# Altium integrated library FPGA Generic.IntLib: 1651 symbols (part 17 of 20)
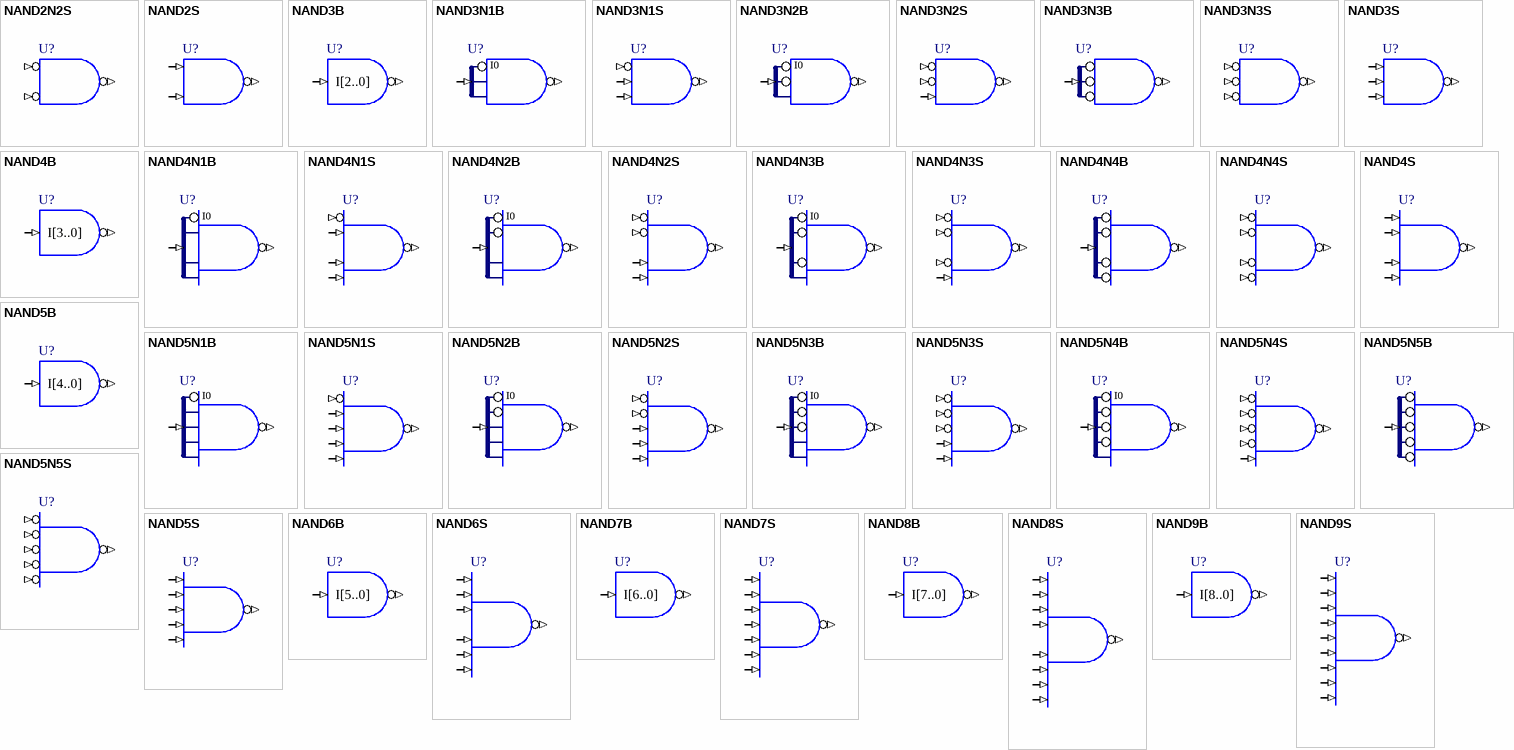
[diagram p59: symbols NAND2N2S to NAND9S]

## NAND5S
designator U?
5-Input NAND Gate, Single Pin Version; XilinxEquivalent: NAND5; FunctionalClass: Logic Primitive; PortSize: 5; ArchiveName: GENERIC; VHDLIB_SIM: GENERIC_LIB; Published: 29-Jan-2004; Publisher: Altium Limited; LastRevisionNo: 1.00.00; HelpURL: CR0118 FPGA Generic Library Guide.pdf#page=402; ComponentLink1URL: CR0136 FPGA Logic Primitive Resource Usage.pdf#page=120; ComponentLink1Description: Core &Resource Usage; SubClass: NAND; PortStyle: Single Pin Version
pins: I0 (in), I1 (in), I2 (in), I3 (in), I4 (in), O (out)

## NAND6B
designator U?
6-Input NAND Gate, Bus Version; FunctionalClass: Logic Primitive; PortSize: 6; ArchiveName: GENERIC; VHDLIB_SIM: GENERIC_LIB; Published: 29-Jan-2004; Publisher: Altium Limited; LastRevisionNo: 1.00.00; HelpURL: CR0118 FPGA Generic Library Guide.pdf#page=402; ComponentLink1URL: CR0136 FPGA Logic Primitive Resource Usage.pdf#page=121; ComponentLink1Description: Core &Resource Usage; SubClass: NAND; PortStyle: Bus Version
pins: I[5..0] (in), O (out)

## NAND6S
designator U?
6-Input NAND Gate, Single Pin Version; XilinxEquivalent: NAND6; FunctionalClass: Logic Primitive; PortSize: 6; ArchiveName: GENERIC; VHDLIB_SIM: GENERIC_LIB; Published: 29-Jan-2004; Publisher: Altium Limited; LastRevisionNo: 1.00.00; HelpURL: CR0118 FPGA Generic Library Guide.pdf#page=402; ComponentLink1URL: CR0136 FPGA Logic Primitive Resource Usage.pdf#page=122; ComponentLink1Description: Core &Resource Usage; SubClass: NAND; PortStyle: Single Pin Version
pins: I0 (in), I1 (in), I2 (in), I3 (in), I4 (in), I5 (in), O (out)

## NAND7B
designator U?
7-Input NAND Gate, Bus Version; FunctionalClass: Logic Primitive; PortSize: 7; ArchiveName: GENERIC; VHDLIB_SIM: GENERIC_LIB; Published: 29-Jan-2004; Publisher: Altium Limited; LastRevisionNo: 1.00.00; HelpURL: CR0118 FPGA Generic Library Guide.pdf#page=402; ComponentLink1URL: CR0136 FPGA Logic Primitive Resource Usage.pdf#page=123; ComponentLink1Description: Core &Resource Usage; SubClass: NAND; PortStyle: Bus Version
pins: I[6..0] (in), O (out)

## NAND7S
designator U?
7-Input NAND Gate, Single Pin Version; XilinxEquivalent: NAND7; FunctionalClass: Logic Primitive; PortSize: 7; ArchiveName: GENERIC; VHDLIB_SIM: GENERIC_LIB; Published: 29-Jan-2004; Publisher: Altium Limited; LastRevisionNo: 1.00.00; HelpURL: CR0118 FPGA Generic Library Guide.pdf#page=402; ComponentLink1URL: CR0136 FPGA Logic Primitive Resource Usage.pdf#page=124; ComponentLink1Description: Core &Resource Usage; SubClass: NAND; PortStyle: Single Pin Version
pins: I0 (in), I1 (in), I2 (in), I3 (in), I4 (in), I5 (in), I6 (in), O (out)

## NAND8B
designator U?
8-Input NAND Gate, Bus Version; FunctionalClass: Logic Primitive; PortSize: 8; ArchiveName: GENERIC; VHDLIB_SIM: GENERIC_LIB; Published: 29-Jan-2004; Publisher: Altium Limited; LastRevisionNo: 1.00.00; HelpURL: CR0118 FPGA Generic Library Guide.pdf#page=402; ComponentLink1URL: CR0136 FPGA Logic Primitive Resource Usage.pdf#page=125; ComponentLink1Description: Core &Resource Usage; SubClass: NAND; PortStyle: Bus Version
pins: I[7..0] (in), O (out)

## NAND8S
designator U?
8-Input NAND Gate, Single Pin Version; XilinxEquivalent: NAND8; FunctionalClass: Logic Primitive; PortSize: 8; ArchiveName: GENERIC; VHDLIB_SIM: GENERIC_LIB; Published: 29-Jan-2004; Publisher: Altium Limited; LastRevisionNo: 1.00.00; HelpURL: CR0118 FPGA Generic Library Guide.pdf#page=402; ComponentLink1URL: CR0136 FPGA Logic Primitive Resource Usage.pdf#page=126; ComponentLink1Description: Core &Resource Usage; SubClass: NAND; PortStyle: Single Pin Version
pins: I0 (in), I1 (in), I2 (in), I3 (in), I4 (in), I5 (in), I6 (in), I7 (in), O (out)

## NAND9B
designator U?
9-Input NAND Gate, Bus Version; FunctionalClass: Logic Primitive; PortSize: 9; ArchiveName: GENERIC; VHDLIB_SIM: GENERIC_LIB; Published: 29-Jan-2004; Publisher: Altium Limited; LastRevisionNo: 1.00.00; HelpURL: CR0118 FPGA Generic Library Guide.pdf#page=402; ComponentLink1URL: CR0136 FPGA Logic Primitive Resource Usage.pdf#page=127; ComponentLink1Description: Core &Resource Usage; SubClass: NAND; PortStyle: Bus Version
pins: I[8..0] (in), O (out)

## NAND9S
designator U?
9-Input NAND Gate, Single Pin Version; XilinxEquivalent: NAND9; FunctionalClass: Logic Primitive; PortSize: 9; ArchiveName: GENERIC; VHDLIB_SIM: GENERIC_LIB; Published: 29-Jan-2004; Publisher: Altium Limited; LastRevisionNo: 1.00.00; HelpURL: CR0118 FPGA Generic Library Guide.pdf#page=402; ComponentLink1URL: CR0136 FPGA Logic Primitive Resource Usage.pdf#page=128; ComponentLink1Description: Core &Resource Usage; SubClass: NAND; PortStyle: Single Pin Version
pins: I0 (in), I1 (in), I2 (in), I3 (in), I4 (in), I5 (in), I6 (in), I7 (in), I8 (in), O (out)

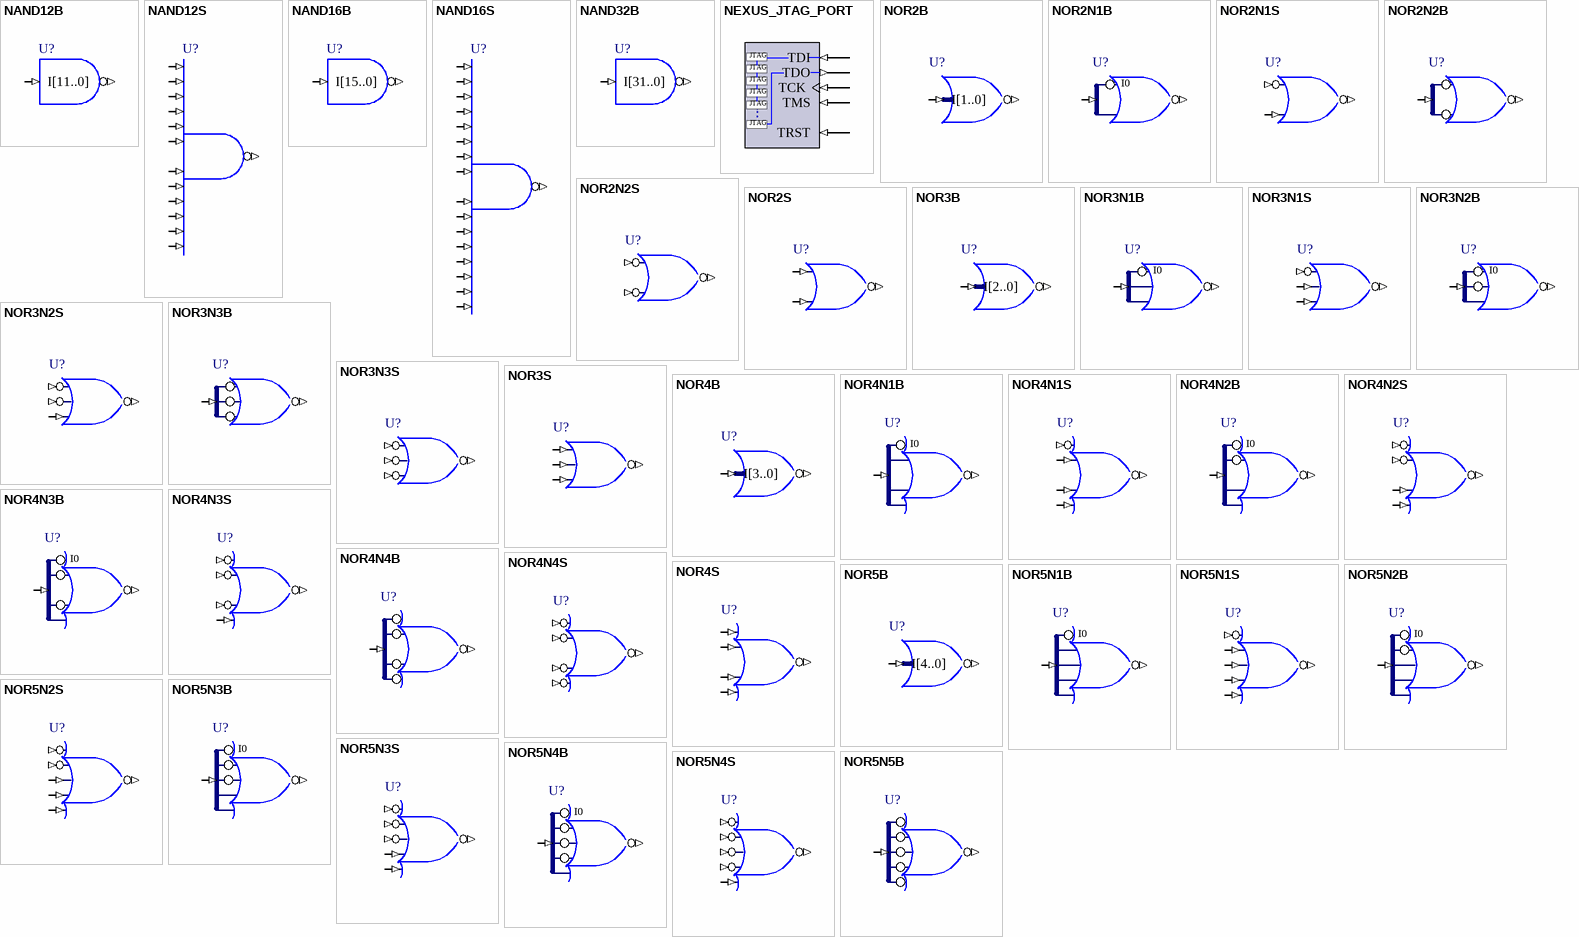
[diagram p35: symbols NAND12B to NOR5N5B]

## NAND12B
designator U?
12-Input NAND Gate, Bus Version; FunctionalClass: Logic Primitive; PortSize: 12; ArchiveName: GENERIC; VHDLIB_SIM: GENERIC_LIB; Published: 29-Jan-2004; Publisher: Altium Limited; LastRevisionNo: 1.00.00; HelpURL: CR0118 FPGA Generic Library Guide.pdf#page=402; ComponentLink1URL: CR0136 FPGA Logic Primitive Resource Usage.pdf#page=129; ComponentLink1Description: Core &Resource Usage; SubClass: NAND; PortStyle: Bus Version
pins: I[11..0] (in), O (out)

## NAND12S
designator U?
12-Input NAND Gate, Single Pin Version; XilinxEquivalent: NAND12; FunctionalClass: Logic Primitive; PortSize: 12; ArchiveName: GENERIC; VHDLIB_SIM: GENERIC_LIB; Published: 29-Jan-2004; Publisher: Altium Limited; LastRevisionNo: 1.00.00; HelpURL: CR0118 FPGA Generic Library Guide.pdf#page=402; ComponentLink1URL: CR0136 FPGA Logic Primitive Resource Usage.pdf#page=130; ComponentLink1Description: Core &Resource Usage; SubClass: NAND; PortStyle: Single Pin Version
pins: I0 (in), I1 (in), I2 (in), I3 (in), I4 (in), I5 (in), I6 (in), I7 (in), I8 (in), I9 (in), I10 (in), I11 (in), O (out)

## NAND16B
designator U?
16-Input NAND Gate, Bus Version; FunctionalClass: Logic Primitive; PortSize: 16; ArchiveName: GENERIC; VHDLIB_SIM: GENERIC_LIB; Published: 29-Jan-2004; Publisher: Altium Limited; LastRevisionNo: 1.00.00; HelpURL: CR0118 FPGA Generic Library Guide.pdf#page=402; ComponentLink1URL: CR0136 FPGA Logic Primitive Resource Usage.pdf#page=131; ComponentLink1Description: Core &Resource Usage; SubClass: NAND; PortStyle: Bus Version
pins: I[15..0] (in), O (out)

## NAND16S
designator U?
16-Input NAND Gate, Single Pin Version; XilinxEquivalent: NAND16; FunctionalClass: Logic Primitive; PortSize: 16; ArchiveName: GENERIC; VHDLIB_SIM: GENERIC_LIB; Published: 29-Jan-2004; Publisher: Altium Limited; LastRevisionNo: 1.00.00; HelpURL: CR0118 FPGA Generic Library Guide.pdf#page=402; ComponentLink1URL: CR0136 FPGA Logic Primitive Resource Usage.pdf#page=132; ComponentLink1Description: Core &Resource Usage; SubClass: NAND; PortStyle: Single Pin Version
pins: I0 (in), I1 (in), I2 (in), I3 (in), I4 (in), I5 (in), I6 (in), I7 (in), I8 (in), I9 (in), I10 (in), I11 (in), I12 (in), I13 (in), I14 (in), I15 (in), O (out)

## NAND32B
designator U?
32-Input NAND Gate, Bus Version; FunctionalClass: Logic Primitive; PortSize: 32; ArchiveName: GENERIC; VHDLIB_SIM: GENERIC_LIB; Published: 29-Jan-2004; Publisher: Altium Limited; LastRevisionNo: 1.00.00; HelpURL: CR0118 FPGA Generic Library Guide.pdf#page=402; ComponentLink1URL: CR0136 FPGA Logic Primitive Resource Usage.pdf#page=133; ComponentLink1Description: Core &Resource Usage; SubClass: NAND; PortStyle: Bus Version
pins: I[31..0] (in), O (out)

## NEXUS_JTAG_PORT
designator NEXUS_JTAG_PORT
Soft Nexus-Chain Connector; NEXUS_JTAG_CONNECTOR: True; FunctionalClass: JTAG; Published: 29-Jan-2004; Publisher: Altium Limited; LastRevisionNo: 1.00.00; HelpURL: CR0118 FPGA Generic Library Guide.pdf#page=405
pins: TCK (in), TDI (in), TDO (out), TMS (in), TRST (in)
text: .

## NOR2B
designator U?
2-Input NOR Gate, Bus Version; FunctionalClass: Logic Primitive; PortSize: 2; ArchiveName: GENERIC; VHDLIB_SIM: GENERIC_LIB; Published: 29-Jan-2004; Publisher: Altium Limited; LastRevisionNo: 1.00.00; HelpURL: CR0118 FPGA Generic Library Guide.pdf#page=406; ComponentLink1URL: CR0136 FPGA Logic Primitive Resource Usage.pdf#page=134; ComponentLink1Description: Core &Resource Usage; SubClass: NOR; PortStyle: Bus Version
pins: I[1..0] (in), O (out)

## NOR2N1B
designator U?
2-Input NOR Gate with Active Low A Input, Bus Version; FunctionalClass: Logic Primitive; PortSize: 2; ArchiveName: GENERIC; VHDLIB_SIM: GENERIC_LIB; Published: 29-Jan-2004; Publisher: Altium Limited; LastRevisionNo: 1.00.00; HelpURL: CR0118 FPGA Generic Library Guide.pdf#page=406; ComponentLink1URL: CR0136 FPGA Logic Primitive Resource Usage.pdf#page=135; ComponentLink1Description: Core &Resource Usage; SubClass: NOR; PortStyle: Bus Version
pins: I[1..0] (in), O (out)
text: I0

## NOR2N1S
designator U?
2-Input NOR Gate with Active Low A Input, Single Pin Version; XilinxEquivalent: NOR2B1; FunctionalClass: Logic Primitive; PortSize: 2; ArchiveName: GENERIC; VHDLIB_SIM: GENERIC_LIB; Published: 29-Jan-2004; Publisher: Altium Limited; LastRevisionNo: 1.00.00; HelpURL: CR0118 FPGA Generic Library Guide.pdf#page=406; ComponentLink1URL: CR0136 FPGA Logic Primitive Resource Usage.pdf#page=136; ComponentLink1Description: Core &Resource Usage; SubClass: NOR; PortStyle: Single Pin Version
pins: I0 (in), I1 (in), O (out)

## NOR2N2B
designator U?
2-Input NOR Gate with Active Low A and B Inputs, Bus Version; FunctionalClass: Logic Primitive; PortSize: 2; ArchiveName: GENERIC; VHDLIB_SIM: GENERIC_LIB; Published: 29-Jan-2004; Publisher: Altium Limited; LastRevisionNo: 1.00.00; HelpURL: CR0118 FPGA Generic Library Guide.pdf#page=406; ComponentLink1URL: CR0136 FPGA Logic Primitive Resource Usage.pdf#page=137; ComponentLink1Description: Core &Resource Usage; SubClass: NOR; PortStyle: Bus Version
pins: I[1..0] (in), O (out)

## NOR2N2S
designator U?
2-Input NOR Gate with Active Low A and B Inputs, Single Pin Version; XilinxEquivalent: NOR2B2; FunctionalClass: Logic Primitive; PortSize: 2; ArchiveName: GENERIC; VHDLIB_SIM: GENERIC_LIB; Published: 29-Jan-2004; Publisher: Altium Limited; LastRevisionNo: 1.00.00; HelpURL: CR0118 FPGA Generic Library Guide.pdf#page=406; ComponentLink1URL: CR0136 FPGA Logic Primitive Resource Usage.pdf#page=138; ComponentLink1Description: Core &Resource Usage; SubClass: NOR; PortStyle: Single Pin Version
pins: I0 (in), I1 (in), O (out)

## NOR2S
designator U?
2-Input NOR Gate, Single Pin Version; XilinxEquivalent: NOR2; FunctionalClass: Logic Primitive; PortSize: 2; ArchiveName: GENERIC; VHDLIB_SIM: GENERIC_LIB; Published: 29-Jan-2004; Publisher: Altium Limited; LastRevisionNo: 1.00.00; HelpURL: CR0118 FPGA Generic Library Guide.pdf#page=406; ComponentLink1URL: CR0136 FPGA Logic Primitive Resource Usage.pdf#page=139; ComponentLink1Description: Core &Resource Usage; SubClass: NOR; PortStyle: Single Pin Version
pins: I0 (in), I1 (in), O (out)

## NOR3B
designator U?
3-Input NOR Gate, Bus Version; FunctionalClass: Logic Primitive; PortSize: 3; ArchiveName: GENERIC; VHDLIB_SIM: GENERIC_LIB; Published: 29-Jan-2004; Publisher: Altium Limited; LastRevisionNo: 1.00.00; HelpURL: CR0118 FPGA Generic Library Guide.pdf#page=406; ComponentLink1URL: CR0136 FPGA Logic Primitive Resource Usage.pdf#page=140; ComponentLink1Description: Core &Resource Usage; SubClass: NOR; PortStyle: Bus Version
pins: I[2..0] (in), O (out)

## NOR3N1B
designator U?
3-Input NOR Gate with Active Low A Input, Bus Version; FunctionalClass: Logic Primitive; PortSize: 3; ArchiveName: GENERIC; VHDLIB_SIM: GENERIC_LIB; Published: 29-Jan-2004; Publisher: Altium Limited; LastRevisionNo: 1.00.00; HelpURL: CR0118 FPGA Generic Library Guide.pdf#page=406; ComponentLink1URL: CR0136 FPGA Logic Primitive Resource Usage.pdf#page=141; ComponentLink1Description: Core &Resource Usage; SubClass: NOR; PortStyle: Bus Version
pins: I[2..0] (in), O (out)
text: I0

## NOR3N1S
designator U?
3-Input NOR Gate with Active Low A Input, Single Pin Version; XilinxEquivalent: NOR3B1; FunctionalClass: Logic Primitive; PortSize: 3; ArchiveName: GENERIC; VHDLIB_SIM: GENERIC_LIB; Published: 29-Jan-2004; Publisher: Altium Limited; LastRevisionNo: 1.00.00; HelpURL: CR0118 FPGA Generic Library Guide.pdf#page=406; ComponentLink1URL: CR0136 FPGA Logic Primitive Resource Usage.pdf#page=142; ComponentLink1Description: Core &Resource Usage; SubClass: NOR; PortStyle: Single Pin Version
pins: I0 (in), I1 (in), I2 (in), O (out)

## NOR3N2B
designator U?
3-Input NOR Gate with Active Low A and B Inputs, Bus Version; FunctionalClass: Logic Primitive; PortSize: 3; ArchiveName: GENERIC; VHDLIB_SIM: GENERIC_LIB; Published: 29-Jan-2004; Publisher: Altium Limited; LastRevisionNo: 1.00.00; HelpURL: CR0118 FPGA Generic Library Guide.pdf#page=406; ComponentLink1URL: CR0136 FPGA Logic Primitive Resource Usage.pdf#page=143; ComponentLink1Description: Core &Resource Usage; SubClass: NOR; PortStyle: Bus Version
pins: I[2..0] (in), O (out)
text: I0

## NOR3N2S
designator U?
3-Input NOR Gate with Active Low A and B Inputs, Single Pin Version; XilinxEquivalent: NOR3B2; FunctionalClass: Logic Primitive; PortSize: 3; ArchiveName: GENERIC; VHDLIB_SIM: GENERIC_LIB; Published: 29-Jan-2004; Publisher: Altium Limited; LastRevisionNo: 1.00.00; HelpURL: CR0118 FPGA Generic Library Guide.pdf#page=406; ComponentLink1URL: CR0136 FPGA Logic Primitive Resource Usage.pdf#page=144; ComponentLink1Description: Core &Resource Usage; SubClass: NOR; PortStyle: Single Pin Version
pins: I0 (in), I1 (in), I2 (in), O (out)

## NOR3N3B
designator U?
3-Input NOR Gate with Active Low A, B and C Inputs, Bus Version; FunctionalClass: Logic Primitive; PortSize: 3; ArchiveName: GENERIC; VHDLIB_SIM: GENERIC_LIB; Published: 29-Jan-2004; Publisher: Altium Limited; LastRevisionNo: 1.00.00; HelpURL: CR0118 FPGA Generic Library Guide.pdf#page=406; ComponentLink1URL: CR0136 FPGA Logic Primitive Resource Usage.pdf#page=145; ComponentLink1Description: Core &Resource Usage; SubClass: NOR; PortStyle: Bus Version
pins: I[2..0] (in), O (out)

## NOR3N3S
designator U?
3-Input NOR Gate with Active Low A, B and C Inputs, Single Pin Version; XilinxEquivalent: NOR3B3; FunctionalClass: Logic Primitive; PortSize: 3; ArchiveName: GENERIC; VHDLIB_SIM: GENERIC_LIB; Published: 29-Jan-2004; Publisher: Altium Limited; LastRevisionNo: 1.00.00; HelpURL: CR0118 FPGA Generic Library Guide.pdf#page=406; ComponentLink1URL: CR0136 FPGA Logic Primitive Resource Usage.pdf#page=146; ComponentLink1Description: Core &Resource Usage; SubClass: NOR; PortStyle: Single Pin Version
pins: I0 (in), I1 (in), I2 (in), O (out)

## NOR3S
designator U?
3-Input NOR Gate, Single Pin Version; XilinxEquivalent: NOR3; FunctionalClass: Logic Primitive; PortSize: 3; ArchiveName: GENERIC; VHDLIB_SIM: GENERIC_LIB; Published: 29-Jan-2004; Publisher: Altium Limited; LastRevisionNo: 1.00.00; HelpURL: CR0118 FPGA Generic Library Guide.pdf#page=406; ComponentLink1URL: CR0136 FPGA Logic Primitive Resource Usage.pdf#page=147; ComponentLink1Description: Core &Resource Usage; SubClass: NOR; PortStyle: Single Pin Version
pins: I0 (in), I1 (in), I2 (in), O (out)

## NOR4B
designator U?
4-Input NOR Gate, Bus Version; FunctionalClass: Logic Primitive; PortSize: 4; ArchiveName: GENERIC; VHDLIB_SIM: GENERIC_LIB; Published: 29-Jan-2004; Publisher: Altium Limited; LastRevisionNo: 1.00.00; HelpURL: CR0118 FPGA Generic Library Guide.pdf#page=406; ComponentLink1URL: CR0136 FPGA Logic Primitive Resource Usage.pdf#page=148; ComponentLink1Description: Core &Resource Usage; SubClass: NOR; PortStyle: Bus Version
pins: I[3..0] (in), O (out)

## NOR4N1B
designator U?
4-Input NOR Gate with Active Low A Input, Bus Version; FunctionalClass: Logic Primitive; PortSize: 4; ArchiveName: GENERIC; VHDLIB_SIM: GENERIC_LIB; Published: 29-Jan-2004; Publisher: Altium Limited; LastRevisionNo: 1.00.00; HelpURL: CR0118 FPGA Generic Library Guide.pdf#page=406; ComponentLink1URL: CR0136 FPGA Logic Primitive Resource Usage.pdf#page=149; ComponentLink1Description: Core &Resource Usage; SubClass: NOR; PortStyle: Bus Version
pins: I[3..0] (in), O (out)
text: I0

## NOR4N1S
designator U?
4-Input NOR Gate with Active Low A Input, Single Pin Version; XilinxEquivalent: NOR4B1; FunctionalClass: Logic Primitive; PortSize: 4; ArchiveName: GENERIC; VHDLIB_SIM: GENERIC_LIB; Published: 29-Jan-2004; Publisher: Altium Limited; LastRevisionNo: 1.00.00; HelpURL: CR0118 FPGA Generic Library Guide.pdf#page=406; ComponentLink1URL: CR0136 FPGA Logic Primitive Resource Usage.pdf#page=150; ComponentLink1Description: Core &Resource Usage; SubClass: NOR; PortStyle: Single Pin Version
pins: I0 (in), I1 (in), I2 (in), I3 (in), O (out)

## NOR4N2B
designator U?
4-Input NOR Gate with Active Low A and B Inputs, Bus Version; FunctionalClass: Logic Primitive; PortSize: 4; ArchiveName: GENERIC; VHDLIB_SIM: GENERIC_LIB; Published: 29-Jan-2004; Publisher: Altium Limited; LastRevisionNo: 1.00.00; HelpURL: CR0118 FPGA Generic Library Guide.pdf#page=406; ComponentLink1URL: CR0136 FPGA Logic Primitive Resource Usage.pdf#page=151; ComponentLink1Description: Core &Resource Usage; SubClass: NOR; PortStyle: Bus Version
pins: I[3..0] (in), O (out)
text: I0

## NOR4N2S
designator U?
4-Input NOR Gate with Active Low A and B Inputs, Single Pin Version; XilinxEquivalent: NOR4B2; FunctionalClass: Logic Primitive; PortSize: 4; ArchiveName: GENERIC; VHDLIB_SIM: GENERIC_LIB; Published: 29-Jan-2004; Publisher: Altium Limited; LastRevisionNo: 1.00.00; HelpURL: CR0118 FPGA Generic Library Guide.pdf#page=406; ComponentLink1URL: CR0136 FPGA Logic Primitive Resource Usage.pdf#page=152; ComponentLink1Description: Core &Resource Usage; SubClass: NOR; PortStyle: Single Pin Version
pins: I0 (in), I1 (in), I2 (in), I3 (in), O (out)

## NOR4N3B
designator U?
4-Input NOR Gate with Active Low A, B and C Inputs, Bus Version; FunctionalClass: Logic Primitive; PortSize: 4; ArchiveName: GENERIC; VHDLIB_SIM: GENERIC_LIB; Published: 29-Jan-2004; Publisher: Altium Limited; LastRevisionNo: 1.00.00; HelpURL: CR0118 FPGA Generic Library Guide.pdf#page=406; ComponentLink1URL: CR0136 FPGA Logic Primitive Resource Usage.pdf#page=153; ComponentLink1Description: Core &Resource Usage; SubClass: NOR; PortStyle: Bus Version
pins: I[3..0] (in), O (out)
text: I0

## NOR4N3S
designator U?
4-Input NOR Gate with Active Low A, B and C Inputs, Single Pin Version; XilinxEquivalent: NOR4B3; FunctionalClass: Logic Primitive; PortSize: 4; ArchiveName: GENERIC; VHDLIB_SIM: GENERIC_LIB; Published: 29-Jan-2004; Publisher: Altium Limited; LastRevisionNo: 1.00.00; HelpURL: CR0118 FPGA Generic Library Guide.pdf#page=406; ComponentLink1URL: CR0136 FPGA Logic Primitive Resource Usage.pdf#page=154; ComponentLink1Description: Core &Resource Usage; SubClass: NOR; PortStyle: Single Pin Version
pins: I0 (in), I1 (in), I2 (in), I3 (in), O (out)

## NOR4N4B
designator U?
4-Input NOR Gate with Active Low A, B, C and D Inputs, Bus Version; FunctionalClass: Logic Primitive; PortSize: 4; ArchiveName: GENERIC; VHDLIB_SIM: GENERIC_LIB; Published: 29-Jan-2004; Publisher: Altium Limited; LastRevisionNo: 1.00.00; HelpURL: CR0118 FPGA Generic Library Guide.pdf#page=406; ComponentLink1URL: CR0136 FPGA Logic Primitive Resource Usage.pdf#page=155; ComponentLink1Description: Core &Resource Usage; SubClass: NOR; PortStyle: Bus Version
pins: I[3..0] (in), O (out)

## NOR4N4S
designator U?
4-Input NOR Gate with Active Low A, B, C and D Inputs, Single Pin Version; XilinxEquivalent: NOR4B4; FunctionalClass: Logic Primitive; PortSize: 4; ArchiveName: GENERIC; VHDLIB_SIM: GENERIC_LIB; Published: 29-Jan-2004; Publisher: Altium Limited; LastRevisionNo: 1.00.00; HelpURL: CR0118 FPGA Generic Library Guide.pdf#page=406; ComponentLink1URL: CR0136 FPGA Logic Primitive Resource Usage.pdf#page=156; ComponentLink1Description: Core &Resource Usage; SubClass: NOR; PortStyle: Single Pin Version
pins: I0 (in), I1 (in), I2 (in), I3 (in), O (out)

## NOR4S
designator U?
4-Input NOR Gate, Single Pin Version; XilinxEquivalent: NOR4; FunctionalClass: Logic Primitive; PortSize: 4; ArchiveName: GENERIC; VHDLIB_SIM: GENERIC_LIB; Published: 29-Jan-2004; Publisher: Altium Limited; LastRevisionNo: 1.00.00; HelpURL: CR0118 FPGA Generic Library Guide.pdf#page=406; ComponentLink1URL: CR0136 FPGA Logic Primitive Resource Usage.pdf#page=157; ComponentLink1Description: Core &Resource Usage; SubClass: NOR; PortStyle: Single Pin Version
pins: I0 (in), I1 (in), I2 (in), I3 (in), O (out)

## NOR5B
designator U?
5-Input NOR Gate, Bus Version; FunctionalClass: Logic Primitive; PortSize: 5; ArchiveName: GENERIC; VHDLIB_SIM: GENERIC_LIB; Published: 29-Jan-2004; Publisher: Altium Limited; LastRevisionNo: 1.00.00; HelpURL: CR0118 FPGA Generic Library Guide.pdf#page=406; ComponentLink1URL: CR0136 FPGA Logic Primitive Resource Usage.pdf#page=158; ComponentLink1Description: Core &Resource Usage; SubClass: NOR; PortStyle: Bus Version
pins: I[4..0] (in), O (out)

## NOR5N1B
designator U?
5-Input NOR Gate with Active Low A Input, Bus Version; FunctionalClass: Logic Primitive; PortSize: 5; ArchiveName: GENERIC; VHDLIB_SIM: GENERIC_LIB; Published: 29-Jan-2004; Publisher: Altium Limited; LastRevisionNo: 1.00.00; HelpURL: CR0118 FPGA Generic Library Guide.pdf#page=406; ComponentLink1URL: CR0136 FPGA Logic Primitive Resource Usage.pdf#page=159; ComponentLink1Description: Core &Resource Usage; SubClass: NOR; PortStyle: Bus Version
pins: I[4..0] (in), O (out)
text: I0

## NOR5N1S
designator U?
5-Input NOR Gate with Active Low A Input, Single Pin Version; XilinxEquivalent: NOR5B1; FunctionalClass: Logic Primitive; PortSize: 5; ArchiveName: GENERIC; VHDLIB_SIM: GENERIC_LIB; Published: 29-Jan-2004; Publisher: Altium Limited; LastRevisionNo: 1.00.00; HelpURL: CR0118 FPGA Generic Library Guide.pdf#page=406; ComponentLink1URL: CR0136 FPGA Logic Primitive Resource Usage.pdf#page=160; ComponentLink1Description: Core &Resource Usage; SubClass: NOR; PortStyle: Single Pin Version
pins: I0 (in), I1 (in), I2 (in), I3 (in), I4 (in), O (out)

## NOR5N2B
designator U?
5-Input NOR Gate with Active Low A and B Inputs, Bus Version; FunctionalClass: Logic Primitive; PortSize: 5; ArchiveName: GENERIC; VHDLIB_SIM: GENERIC_LIB; Published: 29-Jan-2004; Publisher: Altium Limited; LastRevisionNo: 1.00.00; HelpURL: CR0118 FPGA Generic Library Guide.pdf#page=406; ComponentLink1URL: CR0136 FPGA Logic Primitive Resource Usage.pdf#page=161; ComponentLink1Description: Core &Resource Usage; SubClass: NOR; PortStyle: Bus Version
pins: I[4..0] (in), O (out)
text: I0

## NOR5N2S
designator U?
5-Input NOR Gate with Active Low A and B Inputs, Single Pin Version; XilinxEquivalent: NOR5B2; FunctionalClass: Logic Primitive; PortSize: 5; ArchiveName: GENERIC; VHDLIB_SIM: GENERIC_LIB; Published: 29-Jan-2004; Publisher: Altium Limited; LastRevisionNo: 1.00.00; HelpURL: CR0118 FPGA Generic Library Guide.pdf#page=406; ComponentLink1URL: CR0136 FPGA Logic Primitive Resource Usage.pdf#page=162; ComponentLink1Description: Core &Resource Usage; SubClass: NOR; PortStyle: Single Pin Version
pins: I0 (in), I1 (in), I2 (in), I3 (in), I4 (in), O (out)

## NOR5N3B
designator U?
5-Input NOR Gate with Active Low A, B and C Inputs, Bus Version; FunctionalClass: Logic Primitive; PortSize: 5; ArchiveName: GENERIC; VHDLIB_SIM: GENERIC_LIB; Published: 29-Jan-2004; Publisher: Altium Limited; LastRevisionNo: 1.00.00; HelpURL: CR0118 FPGA Generic Library Guide.pdf#page=406; ComponentLink1URL: CR0136 FPGA Logic Primitive Resource Usage.pdf#page=163; ComponentLink1Description: Core &Resource Usage; SubClass: NOR; PortStyle: Bus Version
pins: I[4..0] (in), O (out)
text: I0

## NOR5N3S
designator U?
5-Input NOR Gate with Active Low A, B and C Inputs, Single Pin Version; XilinxEquivalent: NOR5B3; FunctionalClass: Logic Primitive; PortSize: 5; ArchiveName: GENERIC; VHDLIB_SIM: GENERIC_LIB; Published: 29-Jan-2004; Publisher: Altium Limited; LastRevisionNo: 1.00.00; HelpURL: CR0118 FPGA Generic Library Guide.pdf#page=406; ComponentLink1URL: CR0136 FPGA Logic Primitive Resource Usage.pdf#page=164; ComponentLink1Description: Core &Resource Usage; SubClass: NOR; PortStyle: Single Pin Version
pins: I0 (in), I1 (in), I2 (in), I3 (in), I4 (in), O (out)

## NOR5N4B
designator U?
5-Input NOR Gate with Active Low A, B, C and D Inputs, Bus Version; FunctionalClass: Logic Primitive; PortSize: 5; ArchiveName: GENERIC; VHDLIB_SIM: GENERIC_LIB; Published: 29-Jan-2004; Publisher: Altium Limited; LastRevisionNo: 1.00.00; HelpURL: CR0118 FPGA Generic Library Guide.pdf#page=406; ComponentLink1URL: CR0136 FPGA Logic Primitive Resource Usage.pdf#page=165; ComponentLink1Description: Core &Resource Usage; SubClass: NOR; PortStyle: Bus Version
pins: I[4..0] (in), O (out)
text: I0

## NOR5N4S
designator U?
5-Input NOR Gate with Active Low A, B, C and D Inputs, Single Pin Version; XilinxEquivalent: NOR5B4; FunctionalClass: Logic Primitive; PortSize: 5; ArchiveName: GENERIC; VHDLIB_SIM: GENERIC_LIB; Published: 29-Jan-2004; Publisher: Altium Limited; LastRevisionNo: 1.00.00; HelpURL: CR0118 FPGA Generic Library Guide.pdf#page=406; ComponentLink1URL: CR0136 FPGA Logic Primitive Resource Usage.pdf#page=166; ComponentLink1Description: Core &Resource Usage; SubClass: NOR; PortStyle: Single Pin Version
pins: I0 (in), I1 (in), I2 (in), I3 (in), I4 (in), O (out)

## NOR5N5B
designator U?
5-Input NOR Gate with Active Low A, B, C, D and E Inputs, Bus Version; FunctionalClass: Logic Primitive; PortSize: 5; ArchiveName: GENERIC; VHDLIB_SIM: GENERIC_LIB; Published: 29-Jan-2004; Publisher: Altium Limited; LastRevisionNo: 1.00.00; HelpURL: CR0118 FPGA Generic Library Guide.pdf#page=406; ComponentLink1URL: CR0136 FPGA Logic Primitive Resource Usage.pdf#page=167; ComponentLink1Description: Core &Resource Usage; SubClass: NOR; PortStyle: Bus Version
pins: I[4..0] (in), O (out)

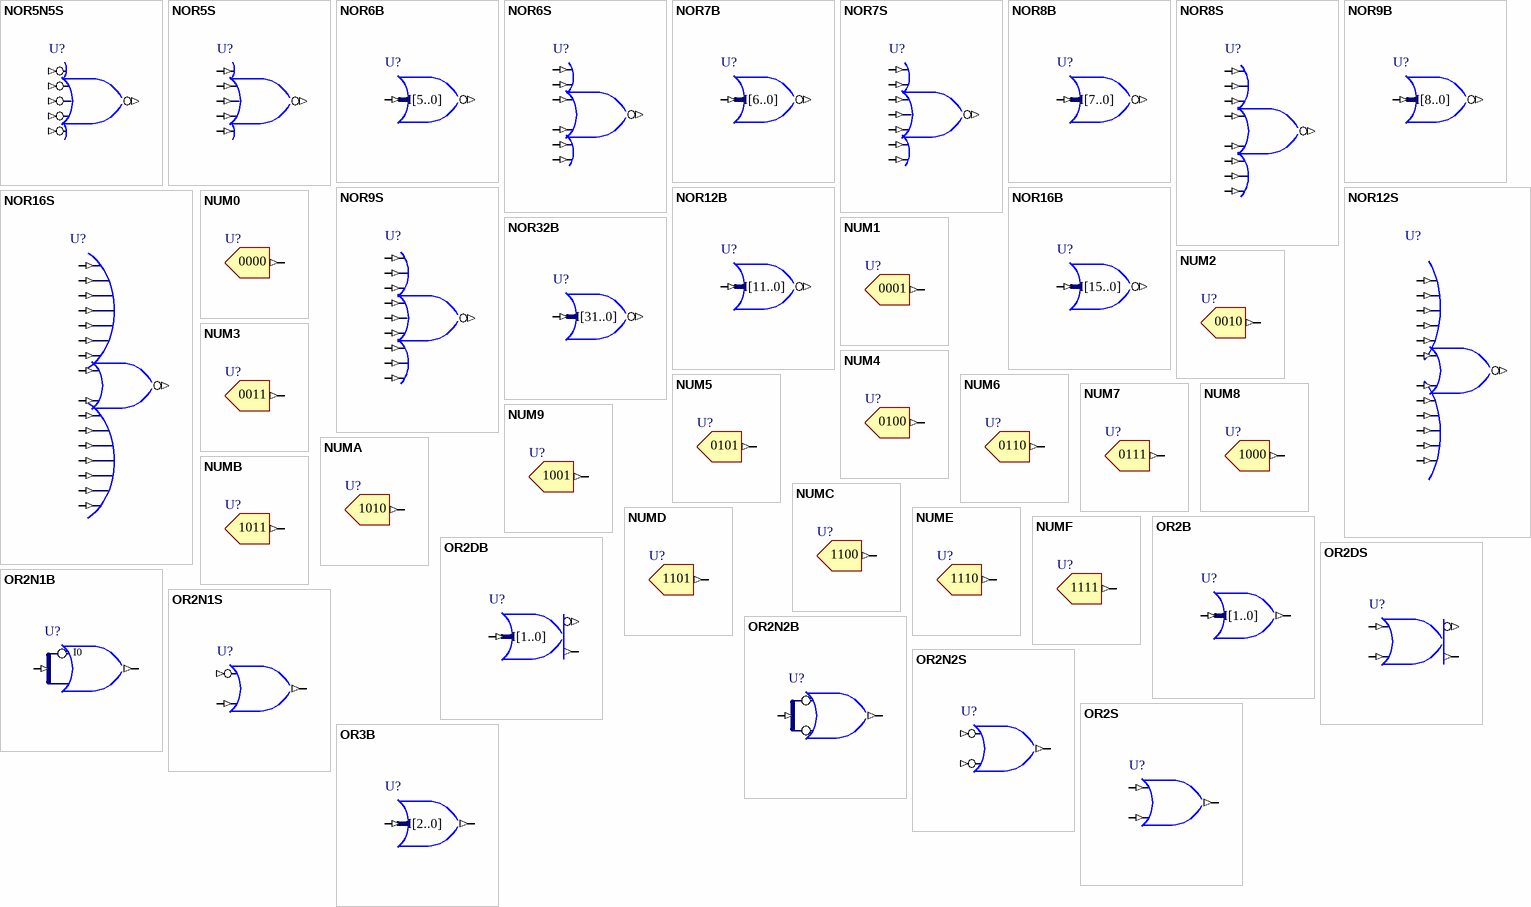
[diagram p36: symbols NOR5N5S to OR3B]

## NOR5N5S
designator U?
5-Input NOR Gate with Active Low A, B, C, D and E Inputs, Single Pin Version; XilinxEquivalent: NOR5B5; FunctionalClass: Logic Primitive; PortSize: 5; ArchiveName: GENERIC; VHDLIB_SIM: GENERIC_LIB; Published: 29-Jan-2004; Publisher: Altium Limited; LastRevisionNo: 1.00.00; HelpURL: CR0118 FPGA Generic Library Guide.pdf#page=406; ComponentLink1URL: CR0136 FPGA Logic Primitive Resource Usage.pdf#page=168; ComponentLink1Description: Core &Resource Usage; SubClass: NOR; PortStyle: Single Pin Version
pins: I0 (in), I1 (in), I2 (in), I3 (in), I4 (in), O (out)

## NOR5S
designator U?
5-Input NOR Gate, Single Pin Version; XilinxEquivalent: NOR5; FunctionalClass: Logic Primitive; PortSize: 5; ArchiveName: GENERIC; VHDLIB_SIM: GENERIC_LIB; Published: 29-Jan-2004; Publisher: Altium Limited; LastRevisionNo: 1.00.00; HelpURL: CR0118 FPGA Generic Library Guide.pdf#page=406; ComponentLink1URL: CR0136 FPGA Logic Primitive Resource Usage.pdf#page=169; ComponentLink1Description: Core &Resource Usage; SubClass: NOR; PortStyle: Single Pin Version
pins: I0 (in), I1 (in), I2 (in), I3 (in), I4 (in), O (out)

## NOR6B
designator U?
6-Input NOR Gate, Bus Version; FunctionalClass: Logic Primitive; PortSize: 6; ArchiveName: GENERIC; VHDLIB_SIM: GENERIC_LIB; Published: 29-Jan-2004; Publisher: Altium Limited; LastRevisionNo: 1.00.00; HelpURL: CR0118 FPGA Generic Library Guide.pdf#page=406; ComponentLink1URL: CR0136 FPGA Logic Primitive Resource Usage.pdf#page=170; ComponentLink1Description: Core &Resource Usage; SubClass: NOR; PortStyle: Bus Version
pins: I[5..0] (in), O (out)

## NOR6S
designator U?
6-Input NOR Gate, Single Pin Version; XilinxEquivalent: NOR6; FunctionalClass: Logic Primitive; PortSize: 6; ArchiveName: GENERIC; VHDLIB_SIM: GENERIC_LIB; Published: 29-Jan-2004; Publisher: Altium Limited; LastRevisionNo: 1.00.00; HelpURL: CR0118 FPGA Generic Library Guide.pdf#page=406; ComponentLink1URL: CR0136 FPGA Logic Primitive Resource Usage.pdf#page=171; ComponentLink1Description: Core &Resource Usage; SubClass: NOR; PortStyle: Single Pin Version
pins: I0 (in), I1 (in), I2 (in), I3 (in), I4 (in), I5 (in), O (out)

## NOR7B
designator U?
7-Input NOR Gate, Bus Version; FunctionalClass: Logic Primitive; PortSize: 7; ArchiveName: GENERIC; VHDLIB_SIM: GENERIC_LIB; Published: 29-Jan-2004; Publisher: Altium Limited; LastRevisionNo: 1.00.00; HelpURL: CR0118 FPGA Generic Library Guide.pdf#page=406; ComponentLink1URL: CR0136 FPGA Logic Primitive Resource Usage.pdf#page=172; ComponentLink1Description: Core &Resource Usage; SubClass: NOR; PortStyle: Bus Version
pins: I[6..0] (in), O (out)

## NOR7S
designator U?
7-Input NOR Gate, Single Pin Version; XilinxEquivalent: NOR7; FunctionalClass: Logic Primitive; PortSize: 7; ArchiveName: GENERIC; VHDLIB_SIM: GENERIC_LIB; Published: 29-Jan-2004; Publisher: Altium Limited; LastRevisionNo: 1.00.00; HelpURL: CR0118 FPGA Generic Library Guide.pdf#page=406; ComponentLink1URL: CR0136 FPGA Logic Primitive Resource Usage.pdf#page=173; ComponentLink1Description: Core &Resource Usage; SubClass: NOR; PortStyle: Single Pin Version
pins: I0 (in), I1 (in), I2 (in), I3 (in), I4 (in), I5 (in), I6 (in), O (out)

## NOR8B
designator U?
8-Input NOR Gate, Bus Version; FunctionalClass: Logic Primitive; PortSize: 8; ArchiveName: GENERIC; VHDLIB_SIM: GENERIC_LIB; Published: 29-Jan-2004; Publisher: Altium Limited; LastRevisionNo: 1.00.00; HelpURL: CR0118 FPGA Generic Library Guide.pdf#page=406; ComponentLink1URL: CR0136 FPGA Logic Primitive Resource Usage.pdf#page=174; ComponentLink1Description: Core &Resource Usage; SubClass: NOR; PortStyle: Bus Version
pins: I[7..0] (in), O (out)

## NOR8S
designator U?
8-Input NOR Gate, Single Pin Version; XilinxEquivalent: NOR8; FunctionalClass: Logic Primitive; PortSize: 8; ArchiveName: GENERIC; VHDLIB_SIM: GENERIC_LIB; Published: 29-Jan-2004; Publisher: Altium Limited; LastRevisionNo: 1.00.00; HelpURL: CR0118 FPGA Generic Library Guide.pdf#page=406; ComponentLink1URL: CR0136 FPGA Logic Primitive Resource Usage.pdf#page=175; ComponentLink1Description: Core &Resource Usage; SubClass: NOR; PortStyle: Single Pin Version
pins: I0 (in), I1 (in), I2 (in), I3 (in), I4 (in), I5 (in), I6 (in), I7 (in), O (out)

## NOR9B
designator U?
9-Input NOR Gate, Bus Version; FunctionalClass: Logic Primitive; PortSize: 9; ArchiveName: GENERIC; VHDLIB_SIM: GENERIC_LIB; Published: 29-Jan-2004; Publisher: Altium Limited; LastRevisionNo: 1.00.00; HelpURL: CR0118 FPGA Generic Library Guide.pdf#page=406; ComponentLink1URL: CR0136 FPGA Logic Primitive Resource Usage.pdf#page=176; ComponentLink1Description: Core &Resource Usage; SubClass: NOR; PortStyle: Bus Version
pins: I[8..0] (in), O (out)

## NOR9S
designator U?
9-Input NOR Gate, Single Pin Version; XilinxEquivalent: NOR9; FunctionalClass: Logic Primitive; PortSize: 9; ArchiveName: GENERIC; VHDLIB_SIM: GENERIC_LIB; Published: 29-Jan-2004; Publisher: Altium Limited; LastRevisionNo: 1.00.00; HelpURL: CR0118 FPGA Generic Library Guide.pdf#page=406; ComponentLink1URL: CR0136 FPGA Logic Primitive Resource Usage.pdf#page=177; ComponentLink1Description: Core &Resource Usage; SubClass: NOR; PortStyle: Single Pin Version
pins: I0 (in), I1 (in), I2 (in), I3 (in), I4 (in), I5 (in), I6 (in), I7 (in), I8 (in), O (out)

## NOR12B
designator U?
12-Input NOR Gate, Bus Version; FunctionalClass: Logic Primitive; PortSize: 12; ArchiveName: GENERIC; VHDLIB_SIM: GENERIC_LIB; Published: 29-Jan-2004; Publisher: Altium Limited; LastRevisionNo: 1.00.00; HelpURL: CR0118 FPGA Generic Library Guide.pdf#page=406; ComponentLink1URL: CR0136 FPGA Logic Primitive Resource Usage.pdf#page=178; ComponentLink1Description: Core &Resource Usage; SubClass: NOR; PortStyle: Bus Version
pins: I[11..0] (in), O (out)

## NOR12S
designator U?
12-Input NOR Gate, Single Pin Version; XilinxEquivalent: NOR12; FunctionalClass: Logic Primitive; PortSize: 12; ArchiveName: GENERIC; VHDLIB_SIM: GENERIC_LIB; Published: 29-Jan-2004; Publisher: Altium Limited; LastRevisionNo: 1.00.00; HelpURL: CR0118 FPGA Generic Library Guide.pdf#page=406; ComponentLink1URL: CR0136 FPGA Logic Primitive Resource Usage.pdf#page=179; ComponentLink1Description: Core &Resource Usage; SubClass: NOR; PortStyle: Single Pin Version
pins: I0 (in), I1 (in), I2 (in), I3 (in), I4 (in), I5 (in), I6 (in), I7 (in), I8 (in), I9 (in), I10 (in), I11 (in), O (out)

## NOR16B
designator U?
16-Input NOR Gate, Bus Version; FunctionalClass: Logic Primitive; PortSize: 16; ArchiveName: GENERIC; VHDLIB_SIM: GENERIC_LIB; Published: 29-Jan-2004; Publisher: Altium Limited; LastRevisionNo: 1.00.00; HelpURL: CR0118 FPGA Generic Library Guide.pdf#page=406; ComponentLink1URL: CR0136 FPGA Logic Primitive Resource Usage.pdf#page=180; ComponentLink1Description: Core &Resource Usage; SubClass: NOR; PortStyle: Bus Version
pins: I[15..0] (in), O (out)

## NOR16S
designator U?
12-Input NOR Gate, Single Pin Version; XilinxEquivalent: NOR16; FunctionalClass: Logic Primitive; PortSize: 16; ArchiveName: GENERIC; VHDLIB_SIM: GENERIC_LIB; Published: 29-Jan-2004; Publisher: Altium Limited; LastRevisionNo: 1.00.00; HelpURL: CR0118 FPGA Generic Library Guide.pdf#page=406; ComponentLink1URL: CR0136 FPGA Logic Primitive Resource Usage.pdf#page=181; ComponentLink1Description: Core &Resource Usage; SubClass: NOR; PortStyle: Single Pin Version
pins: I0 (in), I1 (in), I2 (in), I3 (in), I4 (in), I5 (in), I6 (in), I7 (in), I8 (in), I9 (in), I10 (in), I11 (in), I12 (in), I13 (in), I14 (in), I15 (in), O (out)

## NOR32B
designator U?
32-Input NOR Gate, Bus Version; FunctionalClass: Logic Primitive; PortSize: 32; ArchiveName: GENERIC; VHDLIB_SIM: GENERIC_LIB; Published: 29-Jan-2004; Publisher: Altium Limited; LastRevisionNo: 1.00.00; HelpURL: CR0118 FPGA Generic Library Guide.pdf#page=406; ComponentLink1URL: CR0136 FPGA Logic Primitive Resource Usage.pdf#page=182; ComponentLink1Description: Core &Resource Usage; SubClass: NOR; PortStyle: Bus Version
pins: I[31..0] (in), O (out)

## NUM0
designator U?
Number Connector 0; FunctionalClass: Numeric Connector; SubClass: 0; PortSize: 4; PortStyle: Bus Version; ArchiveName: GENERIC; VHDLIB_SIM: GENERIC_LIB; Published: 29-Jan-2004; Publisher: Altium Limited; LastRevisionNo: 1.00.00; HelpURL: CR0118 FPGA Generic Library Guide.pdf#page=409; ComponentLink1URL: CR0138 FPGA Numeric Connector Resource Usage.pdf#page=2; ComponentLink1Description: Core &Resource Usage
pins: O[3..0] (out)
text: 0000

## NUM1
designator U?
Number Connector 1; FunctionalClass: Numeric Connector; SubClass: 1; PortSize: 4; PortStyle: Bus Version; ArchiveName: GENERIC; VHDLIB_SIM: GENERIC_LIB; Published: 29-Jan-2004; Publisher: Altium Limited; LastRevisionNo: 1.00.00; HelpURL: CR0118 FPGA Generic Library Guide.pdf#page=409; ComponentLink1URL: CR0138 FPGA Numeric Connector Resource Usage.pdf#page=3; ComponentLink1Description: Core &Resource Usage
pins: O[3..0] (out)
text: 0001

## NUM2
designator U?
Number Connector 2; FunctionalClass: Numeric Connector; SubClass: 2; PortSize: 4; PortStyle: Bus Version; ArchiveName: GENERIC; VHDLIB_SIM: GENERIC_LIB; Published: 29-Jan-2004; Publisher: Altium Limited; LastRevisionNo: 1.00.00; HelpURL: CR0118 FPGA Generic Library Guide.pdf#page=409; ComponentLink1URL: CR0138 FPGA Numeric Connector Resource Usage.pdf#page=4; ComponentLink1Description: Core &Resource Usage
pins: O[3..0] (out)
text: 0010

## NUM3
designator U?
Number Connector 3; FunctionalClass: Numeric Connector; SubClass: 3; PortSize: 4; PortStyle: Bus Version; ArchiveName: GENERIC; VHDLIB_SIM: GENERIC_LIB; Published: 29-Jan-2004; Publisher: Altium Limited; LastRevisionNo: 1.00.00; HelpURL: CR0118 FPGA Generic Library Guide.pdf#page=409; ComponentLink1URL: CR0138 FPGA Numeric Connector Resource Usage.pdf#page=5; ComponentLink1Description: Core &Resource Usage
pins: O[3..0] (out)
text: 0011

## NUM4
designator U?
Number Connector 4; FunctionalClass: Numeric Connector; SubClass: 4; PortStyle: Bus Version; ArchiveName: GENERIC; VHDLIB_SIM: GENERIC_LIB; Published: 29-Jan-2004; Publisher: Altium Limited; LastRevisionNo: 1.00.00; HelpURL: CR0118 FPGA Generic Library Guide.pdf#page=409; ComponentLink1URL: CR0138 FPGA Numeric Connector Resource Usage.pdf#page=6; ComponentLink1Description: Core &Resource Usage; PortSize: 4
pins: O[3..0] (out)
text: 0100

## NUM5
designator U?
Number Connector 5; FunctionalClass: Numeric Connector; SubClass: 5; PortSize: 4; PortStyle: Bus Version; ArchiveName: GENERIC; VHDLIB_SIM: GENERIC_LIB; Published: 29-Jan-2004; Publisher: Altium Limited; LastRevisionNo: 1.00.00; HelpURL: CR0118 FPGA Generic Library Guide.pdf#page=409; ComponentLink1URL: CR0138 FPGA Numeric Connector Resource Usage.pdf#page=7; ComponentLink1Description: Core &Resource Usage
pins: O[3..0] (out)
text: 0101

## NUM6
designator U?
Number Connector 6; FunctionalClass: Numeric Connector; SubClass: 6; PortSize: 4; PortStyle: Bus Version; ArchiveName: GENERIC; VHDLIB_SIM: GENERIC_LIB; Published: 29-Jan-2004; Publisher: Altium Limited; LastRevisionNo: 1.00.00; HelpURL: CR0118 FPGA Generic Library Guide.pdf#page=409; ComponentLink1URL: CR0138 FPGA Numeric Connector Resource Usage.pdf#page=8; ComponentLink1Description: Core &Resource Usage
pins: O[3..0] (out)
text: 0110

## NUM7
designator U?
Number Connector 7; FunctionalClass: Numeric Connector; SubClass: 7; PortSize: 4; PortStyle: Bus Version; ArchiveName: GENERIC; VHDLIB_SIM: GENERIC_LIB; Published: 29-Jan-2004; Publisher: Altium Limited; LastRevisionNo: 1.00.00; HelpURL: CR0118 FPGA Generic Library Guide.pdf#page=409; ComponentLink1URL: CR0138 FPGA Numeric Connector Resource Usage.pdf#page=9; ComponentLink1Description: Core &Resource Usage
pins: O[3..0] (out)
text: 0111

## NUM8
designator U?
Number Connector 8; FunctionalClass: Numeric Connector; SubClass: 8; PortSize: 4; PortStyle: Bus Version; ArchiveName: GENERIC; VHDLIB_SIM: GENERIC_LIB; Published: 29-Jan-2004; Publisher: Altium Limited; LastRevisionNo: 1.00.00; HelpURL: CR0118 FPGA Generic Library Guide.pdf#page=409; ComponentLink1URL: CR0138 FPGA Numeric Connector Resource Usage.pdf#page=10; ComponentLink1Description: Core &Resource Usage
pins: O[3..0] (out)
text: 1000

## NUM9
designator U?
Number Connector 9; FunctionalClass: Numeric Connector; SubClass: 9; PortSize: 4; PortStyle: Bus Version; ArchiveName: GENERIC; VHDLIB_SIM: GENERIC_LIB; Published: 29-Jan-2004; Publisher: Altium Limited; LastRevisionNo: 1.00.00; HelpURL: CR0118 FPGA Generic Library Guide.pdf#page=409; ComponentLink1URL: CR0138 FPGA Numeric Connector Resource Usage.pdf#page=11; ComponentLink1Description: Core &Resource Usage
pins: O[3..0] (out)
text: 1001

## NUMA
designator U?
Number Connector A; FunctionalClass: Numeric Connector; PortSize: 4; PortStyle: Bus Version; ArchiveName: GENERIC; VHDLIB_SIM: GENERIC_LIB; Published: 29-Jan-2004; Publisher: Altium Limited; LastRevisionNo: 1.00.00; HelpURL: CR0118 FPGA Generic Library Guide.pdf#page=409; ComponentLink1URL: CR0138 FPGA Numeric Connector Resource Usage.pdf#page=12; ComponentLink1Description: Core &Resource Usage; SubClass: A
pins: O[3..0] (out)
text: 1010

## NUMB
designator U?
Number Connector B; FunctionalClass: Numeric Connector; PortSize: 4; PortStyle: Bus Version; ArchiveName: GENERIC; VHDLIB_SIM: GENERIC_LIB; Published: 29-Jan-2004; Publisher: Altium Limited; LastRevisionNo: 1.00.00; HelpURL: CR0118 FPGA Generic Library Guide.pdf#page=409; ComponentLink1URL: CR0138 FPGA Numeric Connector Resource Usage.pdf#page=13; ComponentLink1Description: Core &Resource Usage; SubClass: B
pins: O[3..0] (out)
text: 1011

## NUMC
designator U?
Number Connector C; FunctionalClass: Numeric Connector; PortSize: 4; PortStyle: Bus Version; ArchiveName: GENERIC; VHDLIB_SIM: GENERIC_LIB; Published: 29-Jan-2004; Publisher: Altium Limited; LastRevisionNo: 1.00.00; HelpURL: CR0118 FPGA Generic Library Guide.pdf#page=409; ComponentLink1URL: CR0138 FPGA Numeric Connector Resource Usage.pdf#page=14; ComponentLink1Description: Core &Resource Usage; SubClass: C
pins: O[3..0] (out)
text: 1100

## NUMD
designator U?
Number Connector D; FunctionalClass: Numeric Connector; PortSize: 4; PortStyle: Bus Version; ArchiveName: GENERIC; VHDLIB_SIM: GENERIC_LIB; Published: 29-Jan-2004; Publisher: Altium Limited; LastRevisionNo: 1.00.00; HelpURL: CR0118 FPGA Generic Library Guide.pdf#page=409; ComponentLink1URL: CR0138 FPGA Numeric Connector Resource Usage.pdf#page=15; ComponentLink1Description: Core &Resource Usage; SubClass: D
pins: O[3..0] (out)
text: 1101

## NUME
designator U?
Number Connector E; FunctionalClass: Numeric Connector; PortSize: 4; PortStyle: Bus Version; ArchiveName: GENERIC; VHDLIB_SIM: GENERIC_LIB; Published: 29-Jan-2004; Publisher: Altium Limited; LastRevisionNo: 1.00.00; HelpURL: CR0118 FPGA Generic Library Guide.pdf#page=409; ComponentLink1URL: CR0138 FPGA Numeric Connector Resource Usage.pdf#page=16; ComponentLink1Description: Core &Resource Usage; SubClass: E
pins: O[3..0] (out)
text: 1110

## NUMF
designator U?
Number Connector F; FunctionalClass: Numeric Connector; PortSize: 4; PortStyle: Bus Version; ArchiveName: GENERIC; VHDLIB_SIM: GENERIC_LIB; Published: 29-Jan-2004; Publisher: Altium Limited; LastRevisionNo: 1.00.00; HelpURL: CR0118 FPGA Generic Library Guide.pdf#page=409; ComponentLink1URL: CR0138 FPGA Numeric Connector Resource Usage.pdf#page=17; ComponentLink1Description: Core &Resource Usage; SubClass: F
pins: O[3..0] (out)
text: 1111

## OR2B
designator U?
2-Input OR Gate, Bus Version; FunctionalClass: Logic Primitive; PortSize: 2; ArchiveName: GENERIC; VHDLIB_SIM: GENERIC_LIB; Published: 29-Jan-2004; Publisher: Altium Limited; LastRevisionNo: 1.00.00; HelpURL: CR0118 FPGA Generic Library Guide.pdf#page=410; ComponentLink1URL: CR0136 FPGA Logic Primitive Resource Usage.pdf#page=183; ComponentLink1Description: Core &Resource Usage; SubClass: OR; PortStyle: Bus Version
pins: I[1..0] (in), O (out)

## OR2DB
designator U?
2-Input OR/NOR Gate, Bus Version; FunctionalClass: Logic Primitive; SubClass: OR; PortSize: 2; ArchiveName: GENERIC; VHDLIB_SIM: GENERIC_LIB; Published: 29-Jan-2004; Publisher: Altium Limited; LastRevisionNo: 1.00.00; HelpURL: CR0118 FPGA Generic Library Guide.pdf#page=410; ComponentLink1URL: CR0136 FPGA Logic Primitive Resource Usage.pdf#page=184; ComponentLink1Description: Core &Resource Usage; PortStyle: Bus Version
pins: I[1..0] (in), Y (out), YN (out)

## OR2DS
designator U?
2-Input OR/NOR Gate, Single Pin Version; FunctionalClass: Logic Primitive; SubClass: OR; PortSize: 2; ArchiveName: GENERIC; VHDLIB_SIM: GENERIC_LIB; Published: 29-Jan-2004; Publisher: Altium Limited; LastRevisionNo: 1.00.00; HelpURL: CR0118 FPGA Generic Library Guide.pdf#page=410; ComponentLink1URL: CR0136 FPGA Logic Primitive Resource Usage.pdf#page=185; ComponentLink1Description: Core &Resource Usage; PortStyle: Single Pin Version
pins: I0 (in), I1 (in), Y (out), YN (out)

## OR2N1B
designator U?
2-Input OR Gate with Active Low A Input, Bus Version; FunctionalClass: Logic Primitive; PortSize: 2; ArchiveName: GENERIC; VHDLIB_SIM: GENERIC_LIB; Published: 29-Jan-2004; Publisher: Altium Limited; LastRevisionNo: 1.00.00; HelpURL: CR0118 FPGA Generic Library Guide.pdf#page=410; ComponentLink1URL: CR0136 FPGA Logic Primitive Resource Usage.pdf#page=186; ComponentLink1Description: Core &Resource Usage; SubClass: OR; PortStyle: Bus Version
pins: I[1..0] (in), O (out)
text: I0

## OR2N1S
designator U?
2-Input OR Gate with Active Low A Input, Single Pin Version; XilinxEquivalent: OR2B1; FunctionalClass: Logic Primitive; PortSize: 2; ArchiveName: GENERIC; VHDLIB_SIM: GENERIC_LIB; Published: 29-Jan-2004; Publisher: Altium Limited; LastRevisionNo: 1.00.00; HelpURL: CR0118 FPGA Generic Library Guide.pdf#page=410; ComponentLink1URL: CR0136 FPGA Logic Primitive Resource Usage.pdf#page=187; ComponentLink1Description: Core &Resource Usage; SubClass: OR; PortStyle: Single Pin Version
pins: I0 (in), I1 (in), O (out)

## OR2N2B
designator U?
2-Input OR Gate with Active Low A and B Inputs, Bus Version; FunctionalClass: Logic Primitive; PortSize: 2; ArchiveName: GENERIC; VHDLIB_SIM: GENERIC_LIB; Published: 29-Jan-2004; Publisher: Altium Limited; LastRevisionNo: 1.00.00; HelpURL: CR0118 FPGA Generic Library Guide.pdf#page=410; ComponentLink1URL: CR0136 FPGA Logic Primitive Resource Usage.pdf#page=188; ComponentLink1Description: Core &Resource Usage; SubClass: OR; PortStyle: Bus Version
pins: I[1..0] (in), O (out)

## OR2N2S
designator U?
2-Input OR Gate with Active Low A and B Inputs, Single Pin Version; XilinxEquivalent: OR2B2; FunctionalClass: Logic Primitive; PortSize: 2; ArchiveName: GENERIC; VHDLIB_SIM: GENERIC_LIB; Published: 29-Jan-2004; Publisher: Altium Limited; LastRevisionNo: 1.00.00; HelpURL: CR0118 FPGA Generic Library Guide.pdf#page=410; ComponentLink1URL: CR0136 FPGA Logic Primitive Resource Usage.pdf#page=189; ComponentLink1Description: Core &Resource Usage; SubClass: OR; PortStyle: Single Pin Version
pins: I0 (in), I1 (in), O (out)

## OR2S
designator U?
2-Input OR Gate, Single Pin Version; XilinxEquivalent: OR2; FunctionalClass: Logic Primitive; PortSize: 2; ArchiveName: GENERIC; VHDLIB_SIM: GENERIC_LIB; Published: 29-Jan-2004; Publisher: Altium Limited; LastRevisionNo: 1.00.00; HelpURL: CR0118 FPGA Generic Library Guide.pdf#page=410; ComponentLink1URL: CR0136 FPGA Logic Primitive Resource Usage.pdf#page=190; ComponentLink1Description: Core &Resource Usage; SubClass: OR; PortStyle: Single Pin Version
pins: I0 (in), I1 (in), O (out)

## OR3B
designator U?
3-Input OR Gate, Bus Version; FunctionalClass: Logic Primitive; PortSize: 3; ArchiveName: GENERIC; VHDLIB_SIM: GENERIC_LIB; Published: 29-Jan-2004; Publisher: Altium Limited; LastRevisionNo: 1.00.00; HelpURL: CR0118 FPGA Generic Library Guide.pdf#page=410; ComponentLink1URL: CR0136 FPGA Logic Primitive Resource Usage.pdf#page=191; ComponentLink1Description: Core &Resource Usage; SubClass: OR; PortStyle: Bus Version
pins: I[2..0] (in), O (out)

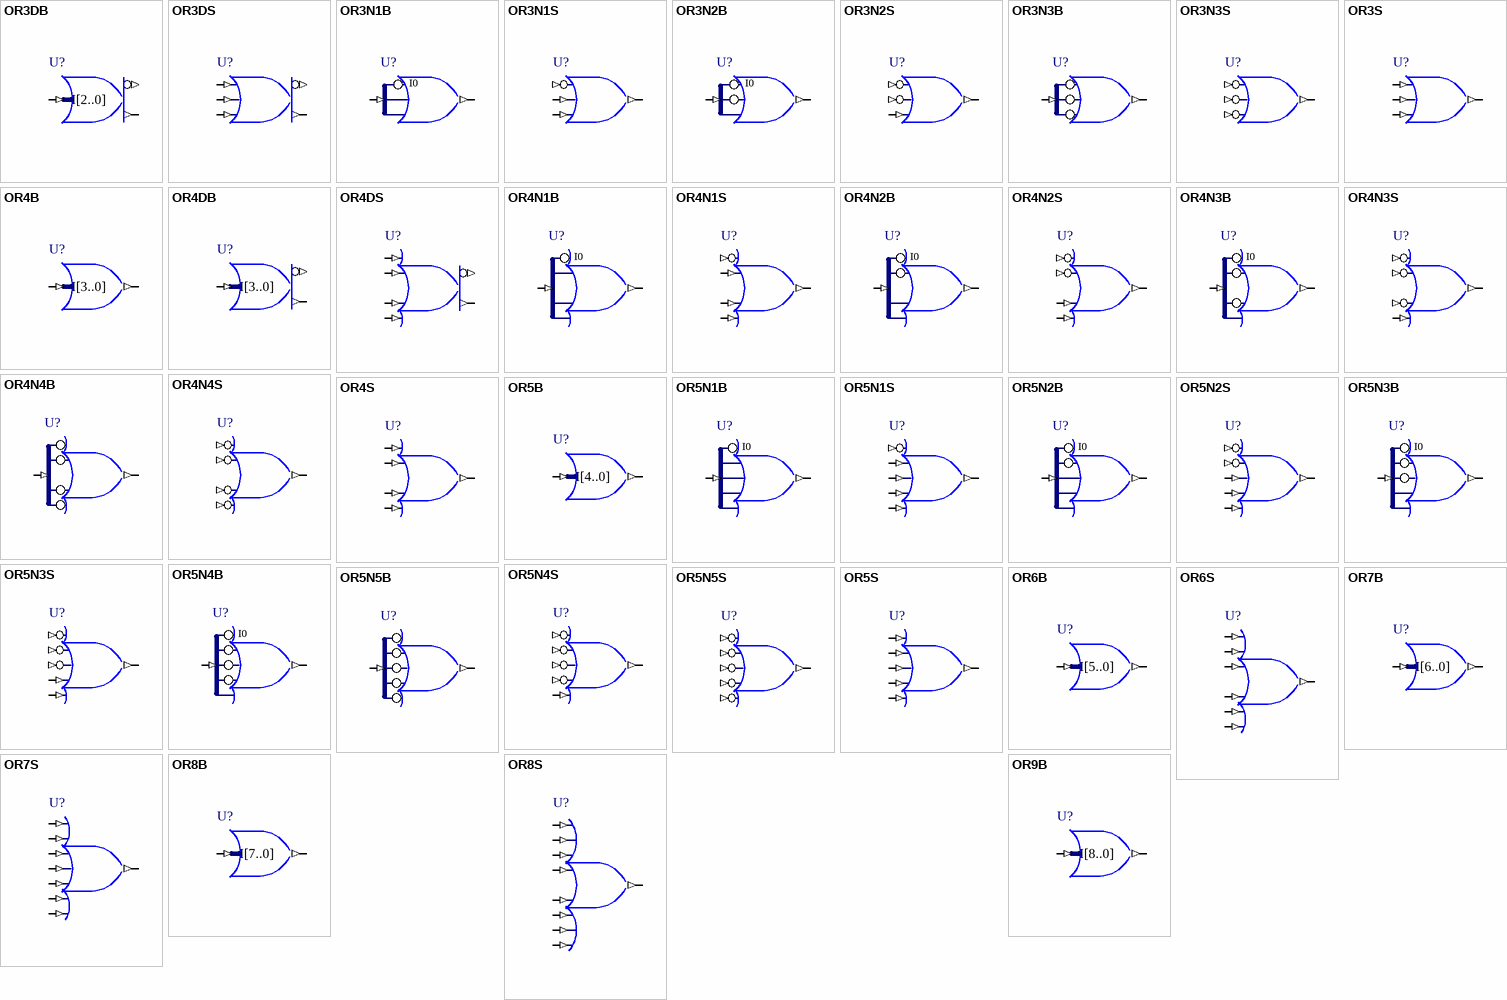
[diagram p37: symbols OR3DB to OR9B]

## OR3DB
designator U?
3-Input OR/NOR Gate, Bus Version; FunctionalClass: Logic Primitive; SubClass: OR; PortSize: 3; ArchiveName: GENERIC; VHDLIB_SIM: GENERIC_LIB; Published: 29-Jan-2004; Publisher: Altium Limited; LastRevisionNo: 1.00.00; HelpURL: CR0118 FPGA Generic Library Guide.pdf#page=410; ComponentLink1URL: CR0136 FPGA Logic Primitive Resource Usage.pdf#page=192; ComponentLink1Description: Core &Resource Usage; PortStyle: Bus Version
pins: I[2..0] (in), Y (out), YN (out)

## OR3DS
designator U?
3-Input OR/NOR Gate, Single Pin Version; FunctionalClass: Logic Primitive; SubClass: OR; PortSize: 3; ArchiveName: GENERIC; VHDLIB_SIM: GENERIC_LIB; Published: 29-Jan-2004; Publisher: Altium Limited; LastRevisionNo: 1.00.00; HelpURL: CR0118 FPGA Generic Library Guide.pdf#page=410; ComponentLink1URL: CR0136 FPGA Logic Primitive Resource Usage.pdf#page=193; ComponentLink1Description: Core &Resource Usage; PortStyle: Single Pin Version
pins: I0 (in), I1 (in), I2 (in), Y (out), YN (out)

## OR3N1B
designator U?
3-Input OR Gate with Active Low A Input, Bus Version; FunctionalClass: Logic Primitive; PortSize: 3; ArchiveName: GENERIC; VHDLIB_SIM: GENERIC_LIB; Published: 29-Jan-2004; Publisher: Altium Limited; LastRevisionNo: 1.00.00; HelpURL: CR0118 FPGA Generic Library Guide.pdf#page=410; ComponentLink1URL: CR0136 FPGA Logic Primitive Resource Usage.pdf#page=194; ComponentLink1Description: Core &Resource Usage; SubClass: OR; PortStyle: Bus Version
pins: I[2..0] (in), O (out)
text: I0

## OR3N1S
designator U?
3-Input OR Gate with Active Low A Input, Single Pin Version; XilinxEquivalent: OR3B1; FunctionalClass: Logic Primitive; PortSize: 3; ArchiveName: GENERIC; VHDLIB_SIM: GENERIC_LIB; Published: 29-Jan-2004; Publisher: Altium Limited; LastRevisionNo: 1.00.00; HelpURL: CR0118 FPGA Generic Library Guide.pdf#page=410; ComponentLink1URL: CR0136 FPGA Logic Primitive Resource Usage.pdf#page=195; ComponentLink1Description: Core &Resource Usage; SubClass: OR; PortStyle: Single Pin Version
pins: I0 (in), I1 (in), I2 (in), O (out)

## OR3N2B
designator U?
3-Input OR Gate with Active Low A and B Inputs, Bus Version; FunctionalClass: Logic Primitive; PortSize: 3; ArchiveName: GENERIC; VHDLIB_SIM: GENERIC_LIB; Published: 29-Jan-2004; Publisher: Altium Limited; LastRevisionNo: 1.00.00; HelpURL: CR0118 FPGA Generic Library Guide.pdf#page=410; ComponentLink1URL: CR0136 FPGA Logic Primitive Resource Usage.pdf#page=196; ComponentLink1Description: Core &Resource Usage; SubClass: OR; PortStyle: Bus Version
pins: I[2..0] (in), O (out)
text: I0

## OR3N2S
designator U?
3-Input OR Gate with Active Low A and B Inputs, Single Pin Version; XilinxEquivalent: OR3B2; FunctionalClass: Logic Primitive; PortSize: 3; ArchiveName: GENERIC; VHDLIB_SIM: GENERIC_LIB; Published: 29-Jan-2004; Publisher: Altium Limited; LastRevisionNo: 1.00.00; HelpURL: CR0118 FPGA Generic Library Guide.pdf#page=410; ComponentLink1URL: CR0136 FPGA Logic Primitive Resource Usage.pdf#page=197; ComponentLink1Description: Core &Resource Usage; SubClass: OR; PortStyle: Single Pin Version
pins: I0 (in), I1 (in), I2 (in), O (out)

## OR3N3B
designator U?
3-Input OR Gate with Active Low A, B and C Inputs, Bus Version; FunctionalClass: Logic Primitive; PortSize: 3; ArchiveName: GENERIC; VHDLIB_SIM: GENERIC_LIB; Published: 29-Jan-2004; Publisher: Altium Limited; LastRevisionNo: 1.00.00; HelpURL: CR0118 FPGA Generic Library Guide.pdf#page=410; ComponentLink1URL: CR0136 FPGA Logic Primitive Resource Usage.pdf#page=198; ComponentLink1Description: Core &Resource Usage; SubClass: OR; PortStyle: Bus Version
pins: I[2..0] (in), O (out)

## OR3N3S
designator U?
3-Input OR Gate with Active Low A, B and C Inputs, Single Pin Version; XilinxEquivalent: OR3B3; FunctionalClass: Logic Primitive; PortSize: 3; ArchiveName: GENERIC; VHDLIB_SIM: GENERIC_LIB; Published: 29-Jan-2004; Publisher: Altium Limited; LastRevisionNo: 1.00.00; HelpURL: CR0118 FPGA Generic Library Guide.pdf#page=410; ComponentLink1URL: CR0136 FPGA Logic Primitive Resource Usage.pdf#page=199; ComponentLink1Description: Core &Resource Usage; SubClass: OR; PortStyle: Single Pin Version
pins: I0 (in), I1 (in), I2 (in), O (out)